# Altium footprint library DIP Button.PcbLib: 18 footprints (part 1 of 2)
Each footprint in its own frame and in the unit in brackets; x right, y up, seen from the top. Pads: shape width x height; smd on the part's side, far side on the other; paste and mask are expansions set on the pad; w line width, h text height; cw(c..) or ccw(c..) is an arc to the next point about the centre after c.
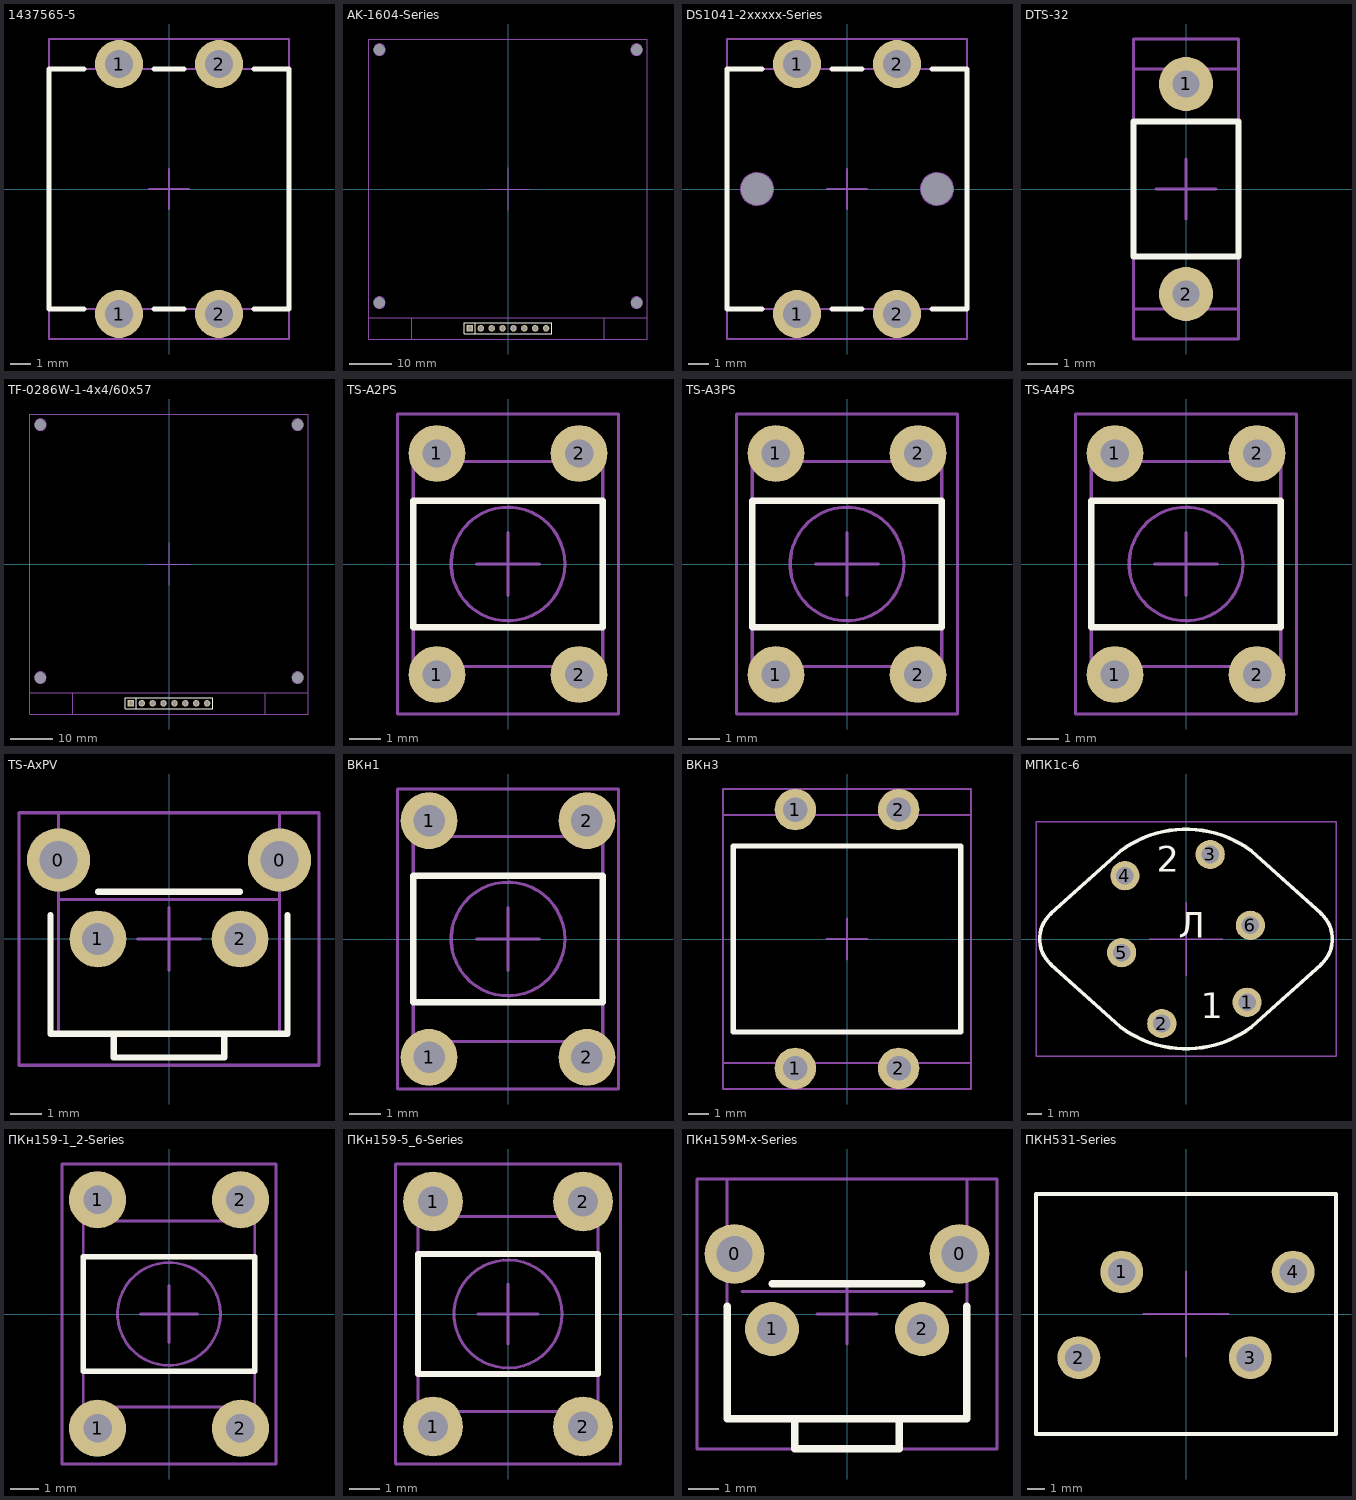
[diagram p0: the footprints below, top view; thin cyan lines are the x and y axes]

## 1437565-5 [mm]
height 7.3
pads (4):
  round 2.4 hole 1.4: 1(-2.5,-6.25) 1(-2.5,6.25) 2(2.5,-6.25) 2(2.5,6.25)
Top Overlay:
  lines w0.25: -4.25,-6 -6,-6 -6,6 -4.25,6 ; -0.75,-6 0.75,-6 ; -0.75,6 0.75,6 ; 4.25,-6 6,-6 6,6 4.25,6
Mechanical 13:
  lines w0.1: -6,-6 6,-6 6,6 -6,6 -6,-6
Mechanical 15:
  lines w0.1: -1,0 1,0 ; 0,-1 0,1 ; -6,-7.5 -6,7.5 6,7.5 6,-7.5 -6,-7.5
3D body "c-1437565-5-e-3d.stp": height 7.36, standoff -3.42, extent -6,-7.049 6,7.049

## AK-1604-Series [mm] "4x4 matrix, 20mA, 24V"
height 10
pads (12):
  round 0 hole 2.7 unplated: 0(-30,-26.5) 0(-30,32.5) 0(30,-26.5) 0(30,32.5)
  rect 1.5x1.5 hole 1: 1(-8.89,-32.5)
  round 1.5 hole 1: 2(-6.35,-32.5) 3(-3.81,-32.5) 4(-1.27,-32.5) 5(1.27,-32.5) 6(3.81,-32.5) 7(6.35,-32.5) 8(8.89,-32.5)
Top Overlay:
  lines w0.2: -7.62,-33.77 -7.62,-31.23 ; -10.16,-33.77 10.16,-33.77 10.16,-31.23 -10.16,-31.23 -10.16,-33.77
Mechanical 13:
  lines w0.1: -22.5,-30 -22.5,-35 22.5,-35 22.5,-30 ; -32.5,-30 -32.5,35 32.5,35 32.5,-30 -32.5,-30
Mechanical 15:
  circle w0.1: c-30,-26.5 r1.35
  circle w0.1: c30,-26.5 r1.35
  circle w0.1: c30,32.5 r1.35
  circle w0.1: c-30,32.5 r1.35
  lines w0.1: -5,0 5,0 ; 0,-5 0,5 ; -32.5,-35 32.5,-35 32.5,35 -32.5,35 -32.5,-35
3D body "PLS-8.STEP": height 8.9, standoff -2.9, extent -10.16,-33.77 10.16,-31.23

## DS1041-2xxxxx-Series [mm]
height 7.3
pads (6):
  round 0 hole 1.6 unplated: 0(-4.5,0) 0(4.5,0)
  round 2.4 hole 1.4: 1(-2.5,-6.25) 1(-2.5,6.25) 2(2.5,-6.25) 2(2.5,6.25)
Top Overlay:
  lines w0.25: -4.25,-6 -6,-6 -6,6 -4.25,6 ; -0.75,-6 0.75,-6 ; -0.75,6 0.75,6 ; 4.25,-6 6,-6 6,6 4.25,6
Mechanical 13:
  lines w0.1: -6,-6 -6,6 6,6 6,-6 -6,-6
Mechanical 15:
  circle w0.1: c-4.5,0 r0.8
  circle w0.1: c4.5,0 r0.8
  lines w0.1: -1,0 1,0 ; 0,-1 0,1 ; -6,-7.5 6,-7.5 6,7.5 -6,7.5 -6,-7.5
3D body "User Library-SWT9.step": height 10, standoff -3, extent -6,-6.936 6,6.937

## DTS-32 [mm] "1 contact, 0.05A, 250V, H=5mm"
height 5
pads (2):
  round 1.8 hole 0.9: 1(0,3.5) 2(0,-3.5)
Top Overlay:
  lines w0.2: -1.75,-2.25 1.75,-2.25 1.75,2.25 -1.75,2.25 -1.75,-2.25
Mechanical 13:
  lines w0.1: -1.75,-4 1.75,-4 1.75,4 -1.75,4 -1.75,-4
Mechanical 15:
  lines w0.1: -1,0 1,0 ; 0,-1 0,1 ; -1.75,-5 -1.75,5 1.75,5 1.75,-5 -1.75,-5
3D body "User Library-dtsm-32n.step": height 5.5, standoff 0, extent -1.75,-4 1.75,4

## TF-0286W-1-4x4/60x57 [mm]
height 10
pads (12):
  round 0 hole 2.7 unplated: 0(-30,-26.5) 0(-30,32.5) 0(30,-26.5) 0(30,32.5)
  rect 1.5x1.5 hole 1: 1(-8.89,-32.5)
  round 1.5 hole 1: 2(-6.35,-32.5) 3(-3.81,-32.5) 4(-1.27,-32.5) 5(1.27,-32.5) 6(3.81,-32.5) 7(6.35,-32.5) 8(8.89,-32.5)
Top Overlay:
  lines w0.2: -7.62,-33.77 -7.62,-31.23 ; -10.16,-33.77 -10.16,-31.23 10.16,-31.23 10.16,-33.77 -10.16,-33.77
Mechanical 13:
  lines w0.1: -22.5,-30 -22.5,-35 22.5,-35 22.5,-30 ; -32.5,-30 32.5,-30 32.5,35 -32.5,35 -32.5,-30
Mechanical 15:
  circle w0.1: c-30,32.5 r1.35
  circle w0.1: c30,32.5 r1.35
  circle w0.1: c30,-26.5 r1.35
  circle w0.1: c-30,-26.5 r1.35
  lines w0.1: -5,0 5,0 ; 0,-5 0,5 ; -32.5,-35 -32.5,35 32.5,35 32.5,-35 -32.5,-35
3D body: height 17, standoff 13, extent -32.5,-35 32.5,35
3D body "PLS-8.STEP": height 8.9, standoff -2.9, extent -10.16,-33.77 10.16,-31.23

## TS-A2PS [mm] "1 contact, 0.02A, 15V, H=5mm"
height 5
pads (4):
  round 1.8 hole 0.9: 1(-2.25,-3.5) 1(-2.25,3.5) 2(2.25,-3.5) 2(2.25,3.5)
Top Overlay:
  lines w0.2: -3,-2 3,-2 3,2 -3,2 -3,-2
Mechanical 13:
  circle w0.1: c0,0 r1.8
  lines w0.1: -3,-3.25 3,-3.25 3,3.25 -3,3.25 -3,-3.25
Mechanical 15:
  lines w0.1: -1,0 1,0 ; 0,-1 0,1 ; -3.5,-4.75 -3.5,4.75 3.5,4.75 3.5,-4.75 -3.5,-4.75
3D body "PTS645T50.STEP": height 7, standoff -1.5, extent -3,-3.75 3,3.749

## TS-A3PS [mm] "1 contact, 0.02A, 15V, H=7mm"
height 7
pads (4):
  round 1.8 hole 0.9: 1(-2.25,-3.5) 1(-2.25,3.5) 2(2.25,-3.5) 2(2.25,3.5)
Top Overlay:
  lines w0.2: -3,-2 -3,2 3,2 3,-2 -3,-2
Mechanical 13:
  circle w0.1: c0,0 r1.8
  lines w0.1: -3,-3.25 3,-3.25 3,3.25 -3,3.25 -3,-3.25
Mechanical 15:
  lines w0.1: -1,0 1,0 ; 0,-1 0,1 ; -3.5,-4.75 -3.5,4.75 3.5,4.75 3.5,-4.75 -3.5,-4.75
3D body "PTS645T70.STEP": height 9, standoff -1.5, extent -3,-3.75 3,3.749

## TS-A4PS [mm] "1 contact, 0.02A, 15V, H=9.5mm"
height 9.5
pads (4):
  round 1.8 hole 0.9: 1(-2.25,-3.5) 1(-2.25,3.5) 2(2.25,-3.5) 2(2.25,3.5)
Top Overlay:
  lines w0.2: -3,-2 -3,2 3,2 3,-2 -3,-2
Mechanical 13:
  circle w0.1: c0,0 r1.8
  lines w0.1: -3,-3.25 -3,3.25 3,3.25 3,-3.25 -3,-3.25
Mechanical 15:
  lines w0.1: -1,0 1,0 ; 0,-1 0,1 ; -3.5,-4.75 -3.5,4.75 3.5,4.75 3.5,-4.75 -3.5,-4.75
3D body "PTS645T95.STEP": height 11.5, standoff -1.5, extent -3,-3.75 3,3.749

## TS-AxPV [mm] "1 contact, 0.05A, 12V"
height 5
pads (4):
  round 2 hole 1.2: 0(-3.5,2.5) 0(3.5,2.5)
  round 1.8 hole 1: 1(-2.25,0) 2(2.25,0)
Top Overlay:
  lines w0.2: -3.75,0.75 -3.75,-3 3.75,-3 3.75,0.75 ; -2.25,1.5 2.25,1.5 ; -1.75,-3 -1.75,-3.75 1.75,-3.75 1.75,-3
Mechanical 13:
  lines w0.1: -3.5,1.25 3.5,1.25 ; -3.5,4 -3.5,-3 3.5,-3 3.5,4 ; -1.75,-3 -1.75,-3.75 1.75,-3.75 1.75,-3
Mechanical 15:
  lines w0.1: -1,0 1,0 ; 0,-1 0,1 ; -4.75,-4 4.75,-4 4.75,4 -4.75,4 -4.75,-4
3D body "PTS645V39.STEP": height 7.6, standoff -3, extent -3.998,-3.85 4,3.95

## ВКн1 [mm] "1 contact"
height 5.2
pads (4):
  round 1.8 hole 1: 1(-2.5,-3.75) 1(-2.5,3.75) 2(2.5,-3.75) 2(2.5,3.75)
Top Overlay:
  lines w0.2: -3,-2 -3,2 3,2 3,-2 -3,-2
Mechanical 13:
  circle w0.1: c0,0 r1.8
  lines w0.1: -3,-3.25 -3,3.25 3,3.25 3,-3.25 -3,-3.25
Mechanical 15:
  lines w0.1: -1,0 1,0 ; 0,-1 0,1 ; -3.5,-4.75 3.5,-4.75 3.5,4.75 -3.5,4.75 -3.5,-4.75
3D body "PTS645T50.STEP": height 6.5, standoff -2, extent -3,-3.75 3,3.749

## ВКн3 [mm] "1 contact"
height 5.2
pads (4):
  round 2 hole 1.2: 1(-2.5,-6.25) 1(-2.5,6.25) 2(2.5,-6.25) 2(2.5,6.25)
Top Overlay:
  lines w0.25: -5.5,-4.5 -5.5,4.5 5.5,4.5 5.5,-4.5 -5.5,-4.5
Mechanical 13:
  lines w0.1: -6,-6 -6,6 6,6 6,-6 -6,-6
Mechanical 15:
  lines w0.1: -1,0 1,0 ; 0,-1 0,1 ; -6,-7.25 6,-7.25 6,7.25 -6,7.25 -6,-7.25

## МПК1с-6 [mm]
height 42
pads (6):
  round 2 hole 1.2: 1(4.175,-4.323) 2(-1.656,-5.775) 3(1.656,5.775) 4(-4.175,4.323) 5(-4.4,-0.935) 6(4.4,0.935)
Top Overlay:
  lines w0.25: -9.24,-1.739 -4.5,-6 ccw(c0,0) 4.5,-6 9.24,-1.739 ; -9.24,1.739 -4.5,6 cw(c0,0) 4.5,6 9.24,1.739 ; -9.225,-1.746 cw(c-7.644,0.001) -9.225,1.747 ; 9.225,-1.746 ccw(c7.644,0.001) 9.225,1.747
  text "1" at 1,-6 h3
  text "2" at -2,4 h3
  text "Л" at -0.5,-0.5 h3
Mechanical 13:
  lines w0.1: -9.24,-1.739 -4.5,-6 ccw(c0,0) 4.5,-6 9.24,-1.739 ; -9.24,1.739 -4.5,6 cw(c0,0) 4.5,6 9.24,1.739 ; -9.225,-1.746 cw(c-7.644,0.001) -9.225,1.747 ; 9.225,-1.746 ccw(c7.644,0.001) 9.225,1.747
Mechanical 15:
  lines w0.1: -2.5,0 2.5,0 ; 0,-2.5 0,2.5 ; -10.25,-8 -10.25,8 10.25,8 10.25,-8 -10.25,-8

## ПКн159-1_2-Series [mm]
height 7.2
pads (4):
  round 2 hole 1: 1(-2.5,-4) 1(-2.5,4) 2(2.5,-4) 2(2.5,4)
Top Overlay:
  lines w0.2: -3,-2 -3,2 3,2 3,-2 -3,-2
Mechanical 13:
  circle w0.1: c0,0 r1.8
  lines w0.1: -3,-3.25 -3,3.25 3,3.25 3,-3.25 -3,-3.25
Mechanical 15:
  lines w0.1: -1,0 1,0 ; 0,-1 0,1 ; -3.75,-5.25 -3.75,5.25 3.75,5.25 3.75,-5.25 -3.75,-5.25
3D body "PTS645T95.STEP": height 11.5, standoff -1.5, extent -3,-3.75 3,3.749

## ПКн159-5_6-Series [mm]
height 7.2
pads (4):
  round 2 hole 1: 1(-2.5,-3.75) 1(-2.5,3.75) 2(2.5,-3.75) 2(2.5,3.75)
Top Overlay:
  lines w0.2: -3,-2 3,-2 3,2 -3,2 -3,-2
Mechanical 13:
  circle w0.1: c0,0 r1.8
  lines w0.1: -3,-3.25 3,-3.25 3,3.25 -3,3.25 -3,-3.25
Mechanical 15:
  lines w0.1: -1,0 1,0 ; 0,-1 0,1 ; -3.75,-5 3.75,-5 3.75,5 -3.75,5 -3.75,-5
3D body "PTS645T95.STEP": height 11.5, standoff -1.5, extent -3,-3.75 3,3.749

## ПКн159М-x-Series [mm]
height 7.2
pads (4):
  round 2 hole 1.2: 0(-3.75,2) 0(3.75,2)
  round 1.8 hole 1: 1(-2.5,-0.5) 2(2.5,-0.5)
Top Overlay:
  lines w0.25: -4,0.25 -4,-3.5 4,-3.5 4,0.25 ; -2.5,1 2.5,1 ; -1.75,-3.5 -1.75,-4.5 1.75,-4.5 1.75,-3.5
Mechanical 13:
  lines w0.1: -4,4.5 -4,-3.5 4,-3.5 4,4.5 ; -3.5,0.75 3.5,0.75 ; -1.75,-3.5 -1.75,-4.5 1.75,-4.5 1.75,-3.5
Mechanical 15:
  lines w0.1: -1,0 1,0 ; 0,-1 0,1 ; -5,-4.5 5,-4.5 5,4.5 -5,4.5 -5,-4.5
3D body "PTS645V39.STEP": height 7.6, standoff -3, extent -3.998,-4.35 4,3.45

## ПКН531-Series [mm]
height 1.6
pads (4):
  round 2.5 hole 1.6: 1(-3.75,2.45) 2(-6.25,-2.55) 3(3.75,-2.55) 4(6.25,2.45)
Top Overlay:
  lines w0.25: -8.75,-7 -8.75,7 8.75,7 8.75,-7 -8.75,-7
Bottom Overlay:
  text "4" at 4,1.75 h3
  text "3" at 6.75,-3.25 h3
  text "2" at -3.25,-3.25 h3
  text "1" at -6,1.75 h3
Mechanical 13:
  lines w0.1: -8.75,-7 -8.75,7 8.75,7 8.75,-7 -8.75,-7
Mechanical 15:
  lines w0.1: -2.5,0 2.5,0 ; 0,-2.5 0,2.5 ; -8.75,-7 8.75,-7 8.75,7 -8.75,7 -8.75,-7